# Altium footprint library Sheye-IC.PcbLib: 58 footprints (part 2 of 4)
Each footprint in its own frame and in the unit in brackets; x right, y up, seen from the top. Pads: shape width x height; smd on the part's side, far side on the other; paste and mask are expansions set on the pad; w line width, h text height; cw(c..) or ccw(c..) is an arc to the next point about the centre after c.
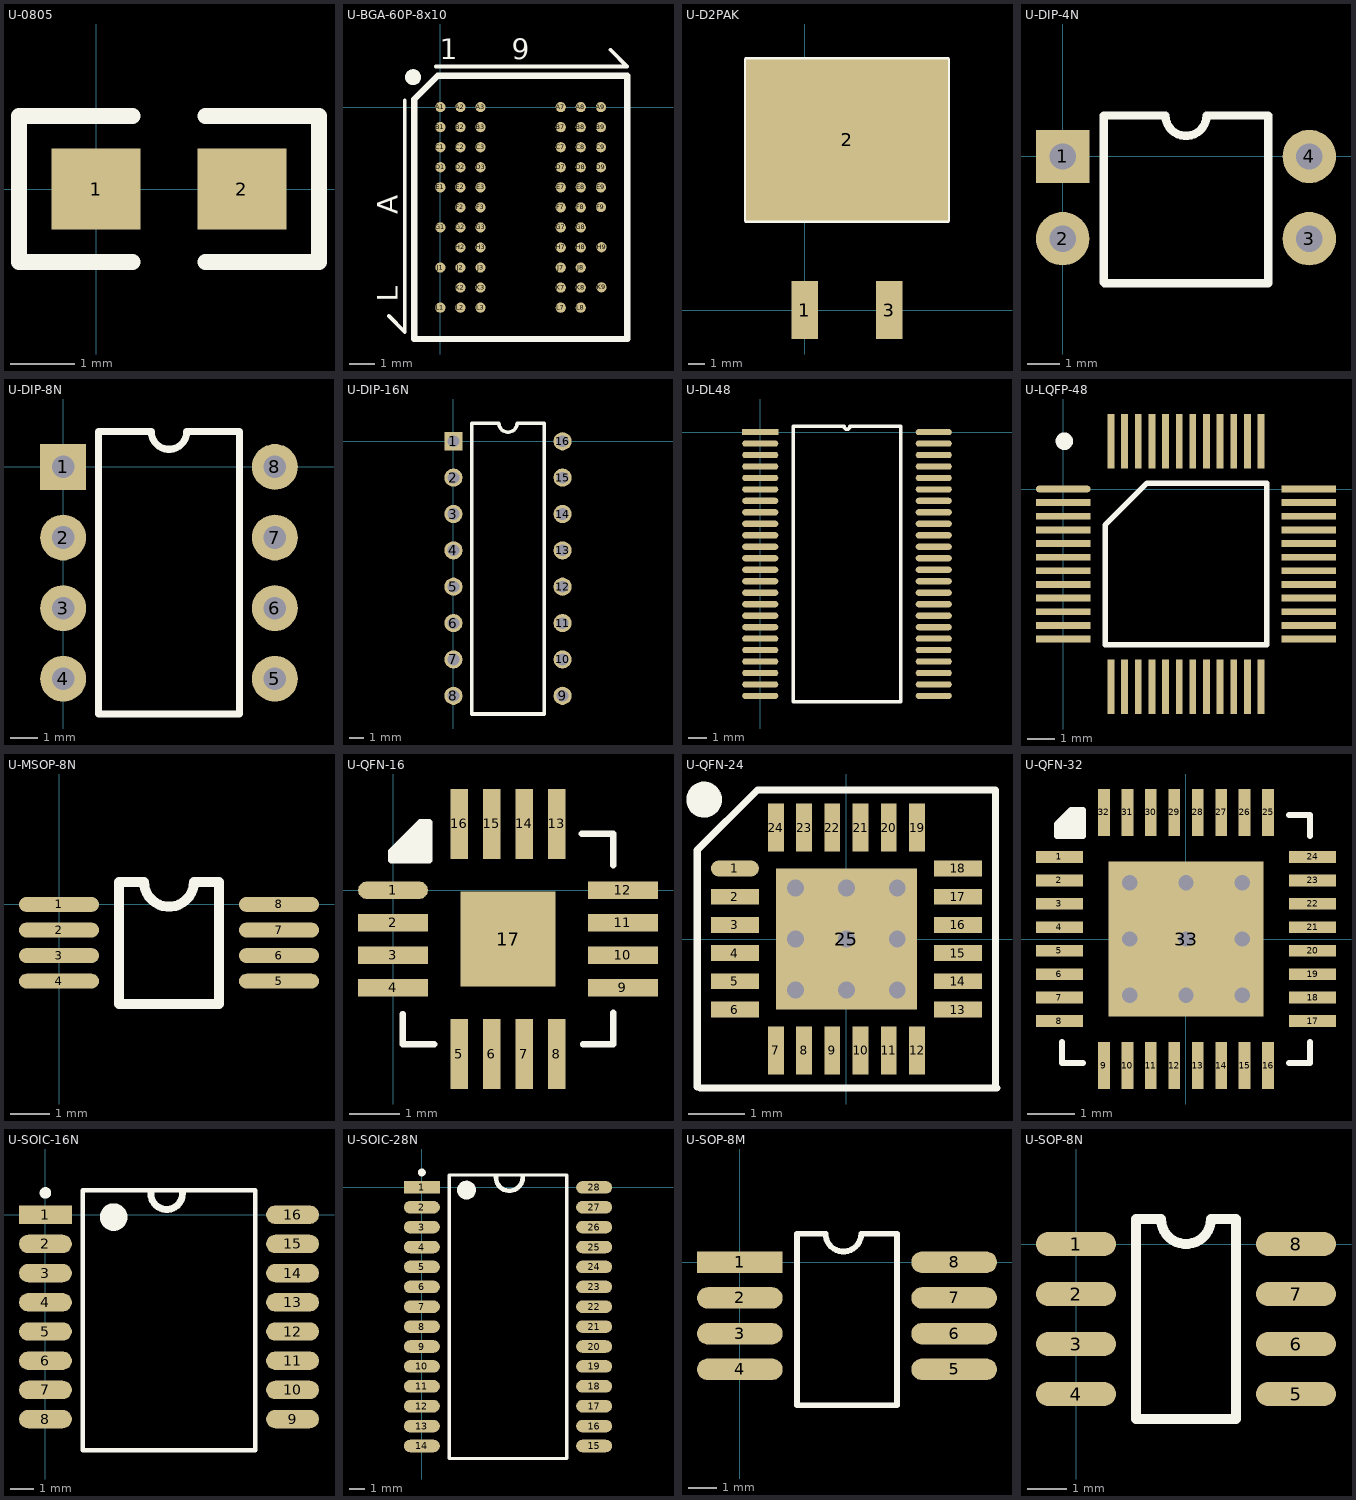
[diagram p1: the footprints below, top view; thin cyan lines are the x and y axes]

## U-0805 [mil]
height 59.06
pads (2):
  rect 55x50 smd: 1(0,0) 2(90,0)
Top Overlay:
  lines w10: 22.5,-45 -47.5,-45 -47.5,45 22.5,45 ; 67.5,-45 137.5,-45 137.5,45 67.5,45
3D body: height 21.65, standoff 0, extent 84,-19 101,19
3D body: height 21.65, standoff 0, extent -11,-19 6,19
3D body: height 21.65, standoff 0, extent 6,-19 84,19

## U-BGA-60P-8x10 [mil]
pads (60):
  round 16 smd: A1(0,0) A2(31.5,0) A3(62.99,0) A7(188.98,0) A8(220.47,0) A9(251.97,0) B1(0,-31.5) B2(31.5,-31.5) B3(62.99,-31.5) B7(188.98,-31.5) B8(220.47,-31.5) B9(251.97,-31.5) C1(0,-62.99) C2(31.5,-62.99) C3(62.99,-62.99) C7(188.98,-62.99) C8(220.47,-62.99) C9(251.97,-62.99) D1(0,-94.49) D2(31.5,-94.49) D3(62.99,-94.49) D7(188.98,-94.49) D8(220.47,-94.49) D9(251.97,-94.49) E1(0,-125.98) E2(31.5,-125.98) E3(62.99,-125.98) E7(188.98,-125.98) E8(220.47,-125.98) E9(251.97,-125.98) F2(31.5,-157.48) F3(62.99,-157.48) F7(188.98,-157.48) F8(220.47,-157.48) F9(252,-157) G1(0,-188.98) G2(31.5,-188.98) G3(62.99,-188.98) G7(188.98,-188.98) G8(220.47,-188.98) H2(31.5,-220.47) H3(62.99,-220.47) H7(188.98,-220.47) H8(220.47,-220.47) H9(253,-220) J1(0,-251.97) J2(31.5,-251.97) J3(62.99,-251.97) J7(188.98,-251.97) J8(220.47,-251.97) K2(31.5,-283.46) K3(62.99,-283.46) K7(188.98,-283.46) K8(220.47,-283.46) K9(253,-283) L1(0,-314.96) L2(31.5,-314.96) L3(62.99,-314.96) L7(188.98,-314.96) L8(220.47,-314.96)
Top Overlay:
  circle w15: c-43,47 r5
  lines w6: -81,-328 -56,-353 -56.09,10.68 ; -7,63.97 293,64 267,90
  lines w10: -41.34,-364.17 293.31,-364.17 293.31,49.21 -4.32,49.21 -41.34,12.2 -41.34,-364.17
  text "1      9" at -1,74.97 h32
  text "L        A" at -67,-306 h32
3D body: height 47.24, standoff 0, extent -25,-350 278,35

## U-D2PAK [mm]
pads (3):
  rect 1.6x3.5 smd: 1(0,0) 3(5.08,0)
  rect 12.2x9.75 smd: 2(2.54,10.275)
Top Overlay:
  lines w0.254: -3.56,5.4 8.64,5.4 8.64,15.15 -3.56,15.15 -3.56,5.4
3D body: height 0.25, standoff 0, extent -0.508,-0.762 0.495,5.588
3D body: height 1.5, standoff 0.1, extent -3.56,5.4 8.64,15.15
3D body: height 0.25, standoff 0, extent 4.572,-0.762 5.575,5.588

## U-DIP-4N [mil]
pads (4):
  rect 65x65 hole 32: 1(0,0)
  round 65 hole 32: 2(0,-100) 3(300,-100) 4(300,0)
Top Overlay:
  lines w10: 250,49 250,-154.15 51,-154.15 50,-153.15 50,50 125,50 ccw(c150,50) 175,50 250,50
3D body: height 118.11, standoff 3.94, extent 50,-154.15 250,50
3D body: height 49.37, standoff 39.37, extent -1.37,-13 54.5,13
3D body: height 49.37, standoff 39.37, extent -1.37,-112 54.5,-86
3D body: height 49.37, standoff 39.37, extent 245.5,-113 301.37,-87
3D body: height 49.37, standoff 39.37, extent 245.5,-13 301.37,13
3D body: height 49.37, standoff 0, extent -1.37,-112 5.38,-86
3D body: height 49.37, standoff 0, extent -1.37,-13 5.38,13
3D body: height 49.37, standoff 0, extent 294.63,-13 301.38,13
3D body: height 49.37, standoff 0, extent 294.63,-113 301.38,-87

## U-DIP-8N [mil]
pads (8):
  rect 65x65 hole 32: 1(0,0)
  round 65 hole 32: 2(0,-100) 3(0,-200) 4(0,-300) 5(300,-300) 6(300,-200) 7(300,-100) 8(300,0)
Top Overlay:
  lines w10: 50,-350 250,-350 250,50 175,50 cw(c150,50) 125,50 50,50 50,-350
3D body: height 49.37, standoff 0, extent 293.63,-313 300.38,-287
3D body: height 49.37, standoff 0, extent 294.63,-213 301.38,-187
3D body: height 49.37, standoff 0, extent 294.63,-113 301.38,-87
3D body: height 49.37, standoff 0, extent 294.63,-13 301.38,13
3D body: height 49.37, standoff 0, extent -1.37,-13 5.38,13
3D body: height 49.37, standoff 0, extent -1.37,-112 5.38,-86
3D body: height 49.37, standoff 0, extent -1.37,-312 5.38,-286
3D body: height 49.37, standoff 39.37, extent 245.5,-13 301.37,13
3D body: height 49.37, standoff 39.37, extent 245.5,-113 301.37,-87
3D body: height 49.37, standoff 39.37, extent 245.5,-213 301.37,-187
3D body: height 49.37, standoff 39.37, extent 244.5,-313 300.37,-287
3D body: height 49.37, standoff 39.37, extent -1.37,-312 54.5,-286
3D body: height 49.37, standoff 39.37, extent -1.37,-212 54.5,-186
3D body: height 49.37, standoff 0, extent -1.37,-212 5.38,-186
3D body: height 49.37, standoff 39.37, extent -1.37,-112 54.5,-86
3D body: height 49.37, standoff 39.37, extent -1.37,-13 54.5,13
3D body: height 118.11, standoff 3.94, extent 50,-350 250,50

## U-DIP-16N [mil]
pads (16):
  rect 50x50 hole 32: 1(0,0)
  round 50 hole 32: 2(0,-100) 3(0,-200) 4(0,-300) 5(0,-400) 6(0,-500) 7(0,-600) 8(0,-700) 9(300,-700) 10(300,-600) 11(300,-500) 12(300,-400) 13(300,-300) 14(300,-200) 15(300,-100) 16(300,0)
Top Overlay:
  lines w10: 50,-750 50,50 125,50 ccw(c150,50) 175,50 250,50 250,-750 50,-750
3D body: height 49.37, standoff 0, extent 292.62,-14 299.37,12
3D body: height 49.37, standoff 39.37, extent 243.5,-14 299.37,12
3D body: height 49.37, standoff 0, extent 293.62,-114 300.37,-88
3D body: height 49.37, standoff 39.37, extent 244.5,-114 300.37,-88
3D body: height 49.37, standoff 0, extent 294.62,-213 301.37,-187
3D body: height 49.37, standoff 39.37, extent 245.5,-213 301.37,-187
3D body: height 49.37, standoff 0, extent 292.62,-314 299.37,-288
3D body: height 49.37, standoff 39.37, extent 243.5,-314 299.37,-288
3D body: height 49.37, standoff 0, extent 294.62,-414 301.37,-388
3D body: height 49.37, standoff 39.37, extent 245.5,-414 301.37,-388
3D body: height 49.37, standoff 0, extent 294.62,-514 301.37,-488
3D body: height 49.37, standoff 39.37, extent 245.5,-514 301.37,-488
3D body: height 49.37, standoff 0, extent 293.62,-614 300.37,-588
3D body: height 49.37, standoff 39.37, extent 244.5,-614 300.37,-588
3D body: height 49.37, standoff 0, extent 293.62,-714 300.37,-688
3D body: height 49.37, standoff 39.37, extent 244.5,-714 300.37,-688
3D body: height 49.37, standoff 0, extent -0.37,-714 6.38,-688
3D body: height 49.37, standoff 39.37, extent -0.37,-714 55.5,-688
3D body: height 49.37, standoff 0, extent -0.37,-614 6.38,-588
3D body: height 49.37, standoff 39.37, extent -0.37,-614 55.5,-588
3D body: height 49.37, standoff 0, extent -0.37,-514 6.38,-488
3D body: height 49.37, standoff 39.37, extent -0.37,-514 55.5,-488
3D body: height 49.37, standoff 0, extent -0.37,-412 6.38,-386
3D body: height 49.37, standoff 39.37, extent -0.37,-412 55.5,-386
3D body: height 49.37, standoff 0, extent -0.37,-313 6.38,-287
3D body: height 49.37, standoff 39.37, extent -0.37,-313 55.5,-287
3D body: height 49.37, standoff 0, extent -0.37,-213 6.38,-187
3D body: height 49.37, standoff 39.37, extent -0.37,-213 55.5,-187
3D body: height 49.37, standoff 0, extent -0.37,-113 6.38,-87
3D body: height 49.37, standoff 39.37, extent -0.37,-113 55.5,-87
3D body: height 49.37, standoff 0, extent -1.37,-13 5.38,13
3D body: height 49.37, standoff 39.37, extent -1.37,-13 54.5,13
3D body: height 118.11, standoff 3.94, extent 50,-750 250,50

## U-DL48 [mm]
pads (48):
  rect 2x0.35 smd: 1(0,0)
  oval 2x0.35 smd: 2(0,-0.635) 3(0,-1.27) 4(0,-1.905) 5(0,-2.54) 6(0,-3.175) 7(0,-3.81) 8(0,-4.445) 9(0,-5.08) 10(0,-5.715) 11(0,-6.35) 12(0,-6.985) 13(0,-7.62) 14(0,-8.255) 15(0,-8.89) 16(0,-9.525) 17(0,-10.16) 18(0,-10.795) 19(0,-11.43) 20(0,-12.065) 21(0,-12.7) 22(0,-13.335) 23(0,-13.97) 24(0,-14.605) 25(9.6,-14.605) 26(9.6,-13.97) 27(9.6,-13.335) 28(9.6,-12.7) 29(9.6,-12.065) 30(9.6,-11.43) 31(9.6,-10.795) 32(9.6,-10.16) 33(9.6,-9.525) 34(9.6,-8.89) 35(9.6,-8.255) 36(9.6,-7.62) 37(9.6,-6.985) 38(9.6,-6.35) 39(9.6,-5.715) 40(9.6,-5.08) 41(9.6,-4.445) 42(9.6,-3.81) 43(9.6,-3.175) 44(9.6,-2.54) 45(9.6,-1.905) 46(9.6,-1.27) 47(9.6,-0.635) 48(9.6,0)
Top Overlay:
  lines w0.2: 1.835,-14.922 7.765,-14.922 7.765,0.318 4.959,0.318 cw(c4.8,0.318) 4.641,0.318 1.835,0.318 1.835,-14.922
3D body: height 3, standoff 0.1, extent 1.829,-14.91 7.772,0.33

## U-LQFP-48 [mm]
pads (48):
  oval 2x0.25 smd: 1(0,0)
  rect 2x0.25 smd: 2(0,-0.5) 3(0,-1) 4(0,-1.5) 5(0,-2) 6(0,-2.5) 7(0,-3) 8(0,-3.5) 9(0,-4) 10(0,-4.5) 11(0,-5) 12(0,-5.5) 25(9,-5.5) 26(9,-5) 27(9,-4.5) 28(9,-4) 29(9,-3.5) 30(9,-3) 31(9,-2.5) 32(9,-2) 33(9,-1.5) 34(9,-1) 35(9,-0.5) 36(9,0)
  rect 0.25x2 smd: 13(1.75,-7.25) 14(2.25,-7.25) 15(2.75,-7.25) 16(3.25,-7.25) 17(3.75,-7.25) 18(4.25,-7.25) 19(4.75,-7.25) 20(5.25,-7.25) 21(5.75,-7.25) 22(6.25,-7.25) 23(6.75,-7.25) 24(7.25,-7.25) 37(7.25,1.75) 38(6.75,1.75) 39(6.25,1.75) 40(5.75,1.75) 41(5.25,1.75) 42(4.75,1.75) 43(4.25,1.75) 44(3.75,1.75) 45(3.25,1.75) 46(2.75,1.75) 47(2.25,1.75) 48(1.75,1.75)
Top Overlay:
  circle w0.381: c0.039,1.753 r0.127
  lines w0.2: 1.535,-5.715 1.535,-1.32 3.07,0.215 7.465,0.215 7.465,-5.715 1.535,-5.715
3D body: height 1.5, standoff 0.1, extent 0.076,-7.239 8.915,1.626

## U-MSOP-8N [mil]
pads (8):
  oval 80x15 smd: 1(0,0) 2(0,-25.59) 3(0,-51.18) 4(0,-76.77) 5(220,-76.77) 6(220,-51.18) 7(220,-25.59) 8(220,0)
Top Overlay:
  lines w10: 60,-99.41 60,22.64 85,22.64 ccw(c110,22.64) 135,22.64 160,22.64 160,-99.41 60,-99.41
3D body: height 10, standoff 0, extent -8,-58.18 62,-43.5
3D body: height 43.31, standoff 3.94, extent 60,-100 160,25
3D body: height 10, standoff 0, extent -8,-83.77 62,-69.09
3D body: height 10, standoff 0, extent -8,-32.59 62,-17.91
3D body: height 10, standoff 0, extent -8,-7 62,7.68
3D body: height 10, standoff 0, extent 158,-7.68 228,7
3D body: height 10, standoff 0, extent 158,-33.27 228,-18.59
3D body: height 10, standoff 0, extent 158,-58.86 228,-44.18
3D body: height 10, standoff 0, extent 158,-84.45 228,-69.77

## U-QFN-16 [mm]
pads (17):
  oval 1.4x0.35 smd: 1(0,0)
  rect 1.4x0.35 smd paste+0: 2(0,-0.65) 3(0,-1.3) 4(0,-1.95)
  rect 0.35x1.4 smd: 5(1.325,-3.275) 6(1.975,-3.275) 7(2.625,-3.275) 8(3.275,-3.275) 13(3.275,1.325) 14(2.625,1.325) 15(1.975,1.325) 16(1.325,1.325)
  rect 1.4x0.35 smd: 9(4.6,-1.95) 10(4.6,-1.3) 11(4.6,-0.65) 12(4.6,0)
  rect 1.9x1.9 smd: 17(2.3,-0.975)
Top Overlay:
  lines w0.127: 0.09,0.625 0.09,0.905 ; 0.192,-2.474 0.192,-3.083 0.827,-3.083 ; 0.217,0.6 0.217,1.006 ; 0.344,0.625 0.344,1.133 ; 0.471,0.6 0.471,1.26 ; 0.598,0.6 0.598,1.336 ; 3.773,1.133 4.408,1.133 4.408,0.498 ; 3.799,-3.083 4.408,-3.083 4.408,-2.448 ; -0.037,0.6 0.725,0.6 0.725,1.362 0.547,1.362 -0.037,0.778 -0.037,0.6
3D body: height 1, standoff 0.1, extent 0.39,-2.88 4.205,0.93

## U-QFN-24 [mm]
pads (25):
  oval 0.85x0.28 smd: 1(-1.975,1.25)
  rect 0.85x0.28 smd: 2(-1.975,0.75) 3(-1.975,0.25) 4(-1.975,-0.25) 5(-1.975,-0.75) 6(-1.975,-1.25) 13(1.975,-1.25) 14(1.975,-0.75) 15(1.975,-0.25) 16(1.975,0.25) 17(1.975,0.75) 18(1.975,1.25)
  rect 0.28x0.85 smd: 7(-1.25,-1.975) 8(-0.75,-1.975) 9(-0.25,-1.975) 10(0.25,-1.975) 11(0.75,-1.975) 12(1.25,-1.975) 19(1.25,1.975) 20(0.75,1.975) 21(0.25,1.975) 22(-0.25,1.975) 23(-0.75,1.975) 24(-1.25,1.975)
  rect 2.5x2.5 smd: 25(0,0)
via 0.9,-0.9 diameter 0.3 hole 0.3
via 0,-0.9 diameter 0.3 hole 0.3
via -0.9,-0.9 diameter 0.3 hole 0.3
via 0.9,0 diameter 0.3 hole 0.3
via 0,0 diameter 0.3 hole 0.3
via -0.9,0 diameter 0.3 hole 0.3
via 0.9,0.9 diameter 0.3 hole 0.3
via 0,0.9 diameter 0.3 hole 0.3
via -0.9,0.9 diameter 0.3 hole 0.3
Top Overlay:
  circle w0.381: c-2.52,2.469 r0.127
  lines w0.127: -2.642,-2.616 -2.642,1.575 -1.575,2.642 2.642,2.642 2.642,-2.616 ; -2.591,-2.642 2.667,-2.642
3D body: height 0.1, standoff 0, extent 1.175,1.682 1.327,2.19
3D body: height 0.1, standoff 0, extent 0.667,1.682 0.819,2.19
3D body: height 0.1, standoff 0, extent 0.184,1.682 0.336,2.19
3D body: height 0.1, standoff 0, extent -0.324,1.682 -0.172,2.19
3D body: height 0.1, standoff 0, extent -0.832,1.682 -0.68,2.19
3D body: height 0.1, standoff 0, extent -1.34,1.682 -1.188,2.19
3D body: height 0.1, standoff 0, extent 1.708,1.174 2.216,1.326
3D body: height 0.1, standoff 0, extent 1.708,0.666 2.216,0.818
3D body: height 0.1, standoff 0, extent 1.708,0.183 2.216,0.336
3D body: height 0.1, standoff 0, extent 1.708,-0.325 2.216,-0.172
3D body: height 0.1, standoff 0, extent 1.708,-0.833 2.216,-0.68
3D body: height 0.1, standoff 0, extent 1.708,-1.315 2.216,-1.163
3D body: height 0.1, standoff 0, extent 1.175,-2.204 1.327,-1.696
3D body: height 0.1, standoff 0, extent 0.667,-2.204 0.819,-1.696
3D body: height 0.1, standoff 0, extent 0.184,-2.204 0.336,-1.696
3D body: height 0.1, standoff 0, extent -0.324,-2.204 -0.172,-1.696
3D body: height 0.1, standoff 0, extent -0.832,-2.204 -0.68,-1.696
3D body: height 0.1, standoff 0, extent -1.34,-2.204 -1.188,-1.696
3D body: height 0.1, standoff 0, extent -2.203,-1.315 -1.695,-1.163
3D body: height 0.1, standoff 0, extent -2.203,-0.833 -1.695,-0.68
3D body: height 0.1, standoff 0, extent -2.203,-0.325 -1.695,-0.172
3D body: height 0.1, standoff 0, extent -2.203,0.183 -1.695,0.336
3D body: height 0.1, standoff 0, extent -2.203,0.666 -1.695,0.818
3D body: height 0.1, standoff 0, extent -2.203,1.174 -1.695,1.326
3D body: height 1, standoff 0, extent -1.975,-1.976 1.987,1.987

## U-QFN-32 [mm]
pads (33):
  rect 1x0.25 smd: 1(-2.7,1.75) 2(-2.7,1.25) 3(-2.7,0.75) 4(-2.7,0.25) 5(-2.7,-0.25) 6(-2.7,-0.75) 7(-2.7,-1.25) 8(-2.7,-1.75) 17(2.7,-1.75) 18(2.7,-1.25) 19(2.7,-0.75) 20(2.7,-0.25) 21(2.7,0.25) 22(2.7,0.75) 23(2.7,1.25) 24(2.7,1.75)
  rect 0.25x1 smd: 9(-1.75,-2.7) 10(-1.25,-2.7) 11(-0.75,-2.7) 12(-0.25,-2.7) 13(0.25,-2.7) 14(0.75,-2.7) 15(1.25,-2.7) 16(1.75,-2.7) 25(1.75,2.7) 26(1.25,2.7) 27(0.75,2.7) 28(0.25,2.7) 29(-0.25,2.7) 30(-0.75,2.7) 31(-1.25,2.7) 32(-1.75,2.7)
  rect 3.3x3.3 smd: 33(0,0)
via -1.2,1.2 diameter 0.66 hole 0.33
via 0,1.2 diameter 0.66 hole 0.33
via 1.2,1.2 diameter 0.66 hole 0.33
via -1.2,0 diameter 0.66 hole 0.33
via 0,0 diameter 0.66 hole 0.33
via 1.2,0 diameter 0.66 hole 0.33
via -1.2,-1.2 diameter 0.66 hole 0.33
via 0,-1.2 diameter 0.66 hole 0.33
via 1.2,-1.2 diameter 0.66 hole 0.33
Top Overlay:
  lines w0.127: -2.65,-2.2 -2.65,-2.65 -2.2,-2.65 ; -2.642,2.235 -2.642,2.5 ; -2.591,2.21 -2.591,2.5 ; -2.5,2.2 -2.5,2.705 -2.455,2.75 ; -2.413,2.2 -2.413,2.708 ; -2.311,2.21 -2.311,2.717 ; 2.2,-2.65 2.65,-2.65 2.65,-2.2 ; 2.2,2.65 2.65,2.65 2.65,2.2 ; -2.75,2.455 -2.75,2.2 -2.2,2.2 -2.2,2.75 -2.455,2.75 ; -2.75,2.455 -2.75,2.455 ; -2.75,2.455 -2.455,2.75
3D body: height 0.9, standoff 0.02, extent -2.5,-2.5 2.5,2.5

## U-SOIC-16N [mm]
height 2.65
pads (16):
  rect 2.3x0.8 smd: 1(0,0)
  oval 2.3x0.8 smd: 2(0,-1.27) 3(0,-2.54) 4(0,-3.81) 5(0,-5.08) 6(0,-6.35) 7(0,-7.62) 8(0,-8.89) 9(10.75,-8.89) 10(10.75,-7.62) 11(10.75,-6.35) 12(10.75,-5.08) 13(10.75,-3.81) 14(10.75,-2.54) 15(10.75,-1.27) 16(10.75,0)
Top Overlay:
  circle w0.25: c0,0.95 r0.125
  circle w0.6: c2.967,-0.102 r0.3
  lines w0.2: 1.625,-10.236 1.625,1.067 9.125,1.067 9.125,-10.236 1.625,-10.236
  lines w0.3: 4.588,0.914 ccw(c5.273,0.914) 5.959,0.914
3D body: height 2.65, standoff 0.1, extent 1.625,-9.695 9.125,0.805

## U-SOIC-28N [mm]
height 2.65
pads (28):
  rect 2.3x0.8 smd: 1(0,0)
  oval 2.3x0.8 smd: 2(0,-1.27) 3(0,-2.54) 4(0,-3.81) 5(0,-5.08) 6(0,-6.35) 7(0,-7.62) 8(0,-8.89) 9(0,-10.16) 10(0,-11.43) 11(0,-12.7) 12(0,-13.97) 13(0,-15.24) 14(0,-16.51) 15(11,-16.51) 16(11,-15.24) 17(11,-13.97) 18(11,-12.7) 19(11,-11.43) 20(11,-10.16) 21(11,-8.89) 22(11,-7.62) 23(11,-6.35) 24(11,-5.08) 25(11,-3.81) 26(11,-2.54) 27(11,-1.27) 28(11,0)
Top Overlay:
  circle w0.6: c2.85,-0.178 r0.3
  circle w0.25: c0,0.95 r0.125
  lines w0.2: 1.75,-17.305 9.25,-17.305 9.25,0.795 1.75,0.795 1.75,-17.305
  lines w0.3: 4.729,0.635 ccw(c5.585,0.635) 6.44,0.635
3D body: height 2.65, standoff 0.1, extent 1.75,-17.005 9.25,0.495

## U-SOP-8M [mil]
pads (8):
  rect 120x30 smd: 1(0,0)
  oval 120x30 smd: 2(0,-50) 3(0,-100) 4(0,-150) 5(300,-150) 6(300,-100) 7(300,-50) 8(300,0)
Top Overlay:
  lines w7.87: 80,-200 220,-200 220,40 170,40 cw(c145,40) 120,40 80,40 80,-200
3D body: height 59.06, standoff 3.94, extent 80,-200 220,40
3D body: height 10, standoff 0, extent -11,-13 84,13
3D body: height 10, standoff 0, extent -11,-63 84,-37
3D body: height 10, standoff 0, extent -11,-113 84,-87
3D body: height 10, standoff 0, extent -11,-162 84,-136
3D body: height 10, standoff 0, extent 216,-163 311,-137
3D body: height 10, standoff 0, extent 215,-113 310,-87
3D body: height 10, standoff 0, extent 215,-62 310,-36
3D body: height 10, standoff 0, extent 215,-12 310,14

## U-SOP-8N [mil]
pads (8):
  oval 80x24 smd: 1(0,0) 2(0,-50) 3(0,-100) 4(0,-150) 5(220,-150) 6(220,-100) 7(220,-50) 8(220,0)
Top Overlay:
  lines w10: 60,-175 160,-175 160,25 135,25 cw(c110,25) 85,25 60,25 60,-175
3D body: height 10, standoff 0, extent 157,-8.5 227,10.5
3D body: height 10, standoff 0, extent 157,-58.5 227,-39.5
3D body: height 10, standoff 0, extent 157,-109.5 227,-90.5
3D body: height 10, standoff 0, extent 157,-159.5 227,-140.5
3D body: height 10, standoff 0, extent -8,-159.5 62,-140.5
3D body: height 10, standoff 0, extent -8,-108.5 62,-89.5
3D body: height 10, standoff 0, extent -8,-58.5 62,-39.5
3D body: height 10, standoff 0, extent -8,-9 62,10
3D body: height 59.06, standoff 3.94, extent 60,-175 160,25